# EAGLE library part 45984-4342 (library Molex EXTreme LPHPower)
459844342 1.27mm, 12.00mm Pitch, EXTreme LPHPower Receptacle Header, Right-Angle, 4 Power Contacts, 24 Signal Contacts, Select Gold (Au) Plating, for 2.36mm Thick PC Board, with Press-fit Plastic Pegs Series: 45984 <https://www.molex.com/molex/search/partSearch?query=45984&pQuery=> Category: PCB Receptacles Overview: EXTreme LPHPower Connectors <https://www.molex.com/molex/products/family/extreme_lphpower>
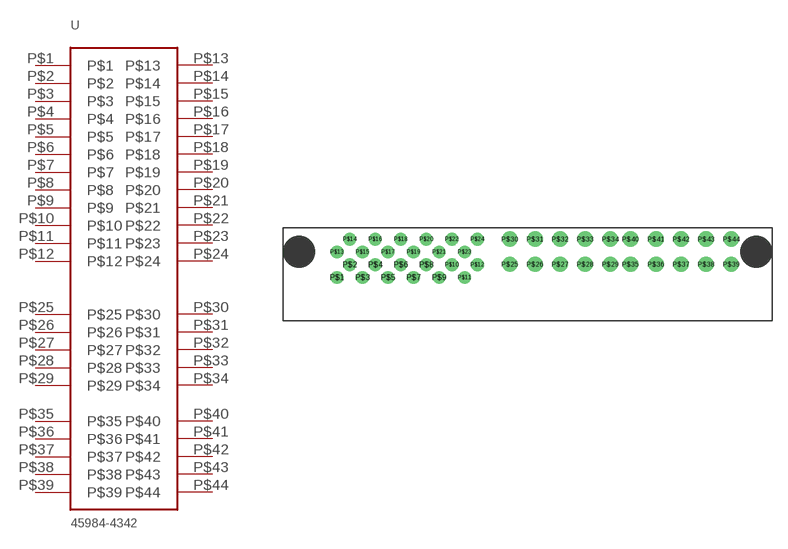
[diagram p0: symbol with the pads of 45984-4342; footprint 45984-4342]

Designator prefix -

## 45984-4342  [45984-4342]
P$1  P$1
P$2  P$2
P$3  P$3
P$4  P$4
P$5  P$5
P$6  P$6
P$7  P$7
P$8  P$8
P$9  P$9
P$10  P$10
P$11  P$11
P$12  P$12
P$13  P$13
P$14  P$14
P$15  P$15
P$16  P$16
P$17  P$17
P$18  P$18
P$19  P$19
P$20  P$20
P$21  P$21
P$22  P$22
P$23  P$23
P$24  P$24
P$25  P$25  sup
P$26  P$26  sup
P$27  P$27  sup
P$28  P$28  sup
P$29  P$29  sup
P$30  P$30  sup
P$31  P$31  sup
P$32  P$32  sup
P$33  P$33  sup
P$34  P$34  sup
P$35  P$35  sup
P$36  P$36  sup
P$37  P$37  sup
P$38  P$38  sup
P$39  P$39  sup
P$40  P$40  sup
P$41  P$41  sup
P$42  P$42  sup
P$43  P$43  sup
P$44  P$44  sup

## Footprint 45984-4342 (pad centres in mm)
459844342 1.27mm, 12.00mm Pitch, EXTreme LPHPower Receptacle Header, Right-Angle, 4 Power Contacts, 24 Signal Contacts, Select Gold (Au) Plating, for 2.36mm Thick PC Board, with Press-fit Plastic Pegs Series: 45984 <https://www.molex.com/molex/search/partSearch?query=45984&pQuery=> Category: PCB Receptacles Overview: EXTreme LPHPower Connectors <https://www.molex.com/molex/products/family/extreme_lphpower>
drill 0.76: P$1 -17.21,-3.81; P$2 -15.94,-2.54; P$3 -14.67,-3.81; P$4 -13.4,-2.54; P$5 -12.13,-3.81; P$6 -10.86,-2.54; P$7 -9.59,-3.81; P$8 -8.32,-2.54; P$9 -7.05,-3.81; P$10 -5.78,-2.54; P$11 -4.51,-3.81; P$12 -3.24,-2.54; P$13 -17.21,-1.27; P$14 -15.94,0; P$15 -14.67,-1.27; P$16 -13.4,0; P$17 -12.13,-1.27; P$18 -10.86,0; P$19 -9.59,-1.27; P$20 -8.32,0; P$21 -7.05,-1.27; P$22 -5.78,0; P$23 -4.51,-1.27; P$24 -3.24,0
drill 1.02: P$25 0,-2.5; P$26 2.5,-2.5; P$27 5,-2.5; P$28 7.5,-2.5; P$29 10,-2.5; P$30 0,0; P$31 2.5,0; P$32 5,0; P$33 7.5,0; P$34 10,0; P$35 12,-2.5; P$36 14.54,-2.5; P$37 17.04,-2.5; P$38 19.54,-2.5; P$39 22.04,-2.5; P$40 12,0; P$41 14.54,0; P$42 17.04,0; P$43 19.54,0; P$44 22.04,0